# Altium footprint library TO-274AA(Super-247).PcbLib: 1 footprints
Each footprint in its own frame and in the unit in brackets; x right, y up, seen from the top. Pads: shape width x height; smd on the part's side, far side on the other; paste and mask are expansions set on the pad; w line width, h text height; cw(c..) or ccw(c..) is an arc to the next point about the centre after c.
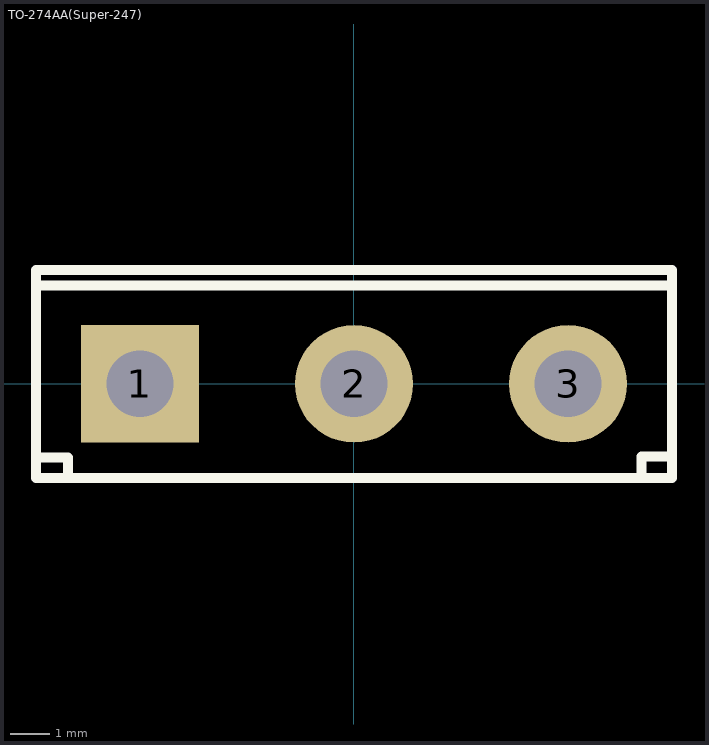
[diagram p0: the footprint, top view; thin cyan lines are the x and y axes]

## TO-274AA(Super-247) [mm]
pads (3):
  rect 3x3 hole 1.7: 1(-5.45,0)
  round 3 hole 1.7: 2(0,0) 3(5.45,0)
Top Overlay:
  lines w0.254: -8.1,2.5 8.025,2.5 ; -8.05,-1.875 -7.275,-1.875 -7.275,-2.35 ; 7.325,-2.4 7.325,-1.85 8.1,-1.85 ; -8.1,-2.4 8.1,-2.4 8.1,2.9 -8.1,2.9 -8.1,-2.4